# Altium schematic symbol library MAX9920ASA+.SchLib: 1 symbol
Pins are listed as number, name and electrical type; pins without a type are passive.

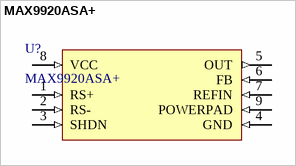
[diagram p0: symbol MAX9920ASA+]

## MAX9920ASA+
designator U?
Current Sense Amplifiers -20V to +75V Input Range, Precision Uni-/Bidirectional, Current-SenseAmplifiers; MFR: Maxim Integrated; Number of Outputs: 1; Max Input Voltage: 75V; Min Supply Voltage: 4.5V; Max Supply Voltage: 5.5V; Output Type: Adjustable; PN: MAX9920ASA+; RoHS: Yes; Mount: Surface Mount; Package: 8 SO-EP; Number of Pins: 9; Min Operating Temperature: -40°C; Max Operating Temperature: 125°C; Min Input Voltage: -20V; ComponentLink1URL: https://www.mouser.ca/datasheet/2/256/MAX9920-1514342.pdf; ComponentLink1Description: Datasheet; Footprint: 8 SO-EP; Supplier 1: Digi-Key; Supplier Part Number 1: MAX9920ASA+-ND
footprint 8 SO-EP
pins: 1 RS+ (in), 2 RS- (in), 3 SHDN (in), 4 GND (in), 5 OUT (out), 6 FB (in), 7 REFIN (in), 8 VCC (in), 9 POWERPAD (in)